# Altium footprint library SparkFun-IC-Microcontroller.PCBLIB: 42 footprints (part 1 of 3)
Each footprint in its own frame and in the unit in brackets; x right, y up, seen from the top. Pads: shape width x height; smd on the part's side, far side on the other; paste and mask are expansions set on the pad; w line width, h text height; cw(c..) or ccw(c..) is an arc to the next point about the centre after c.
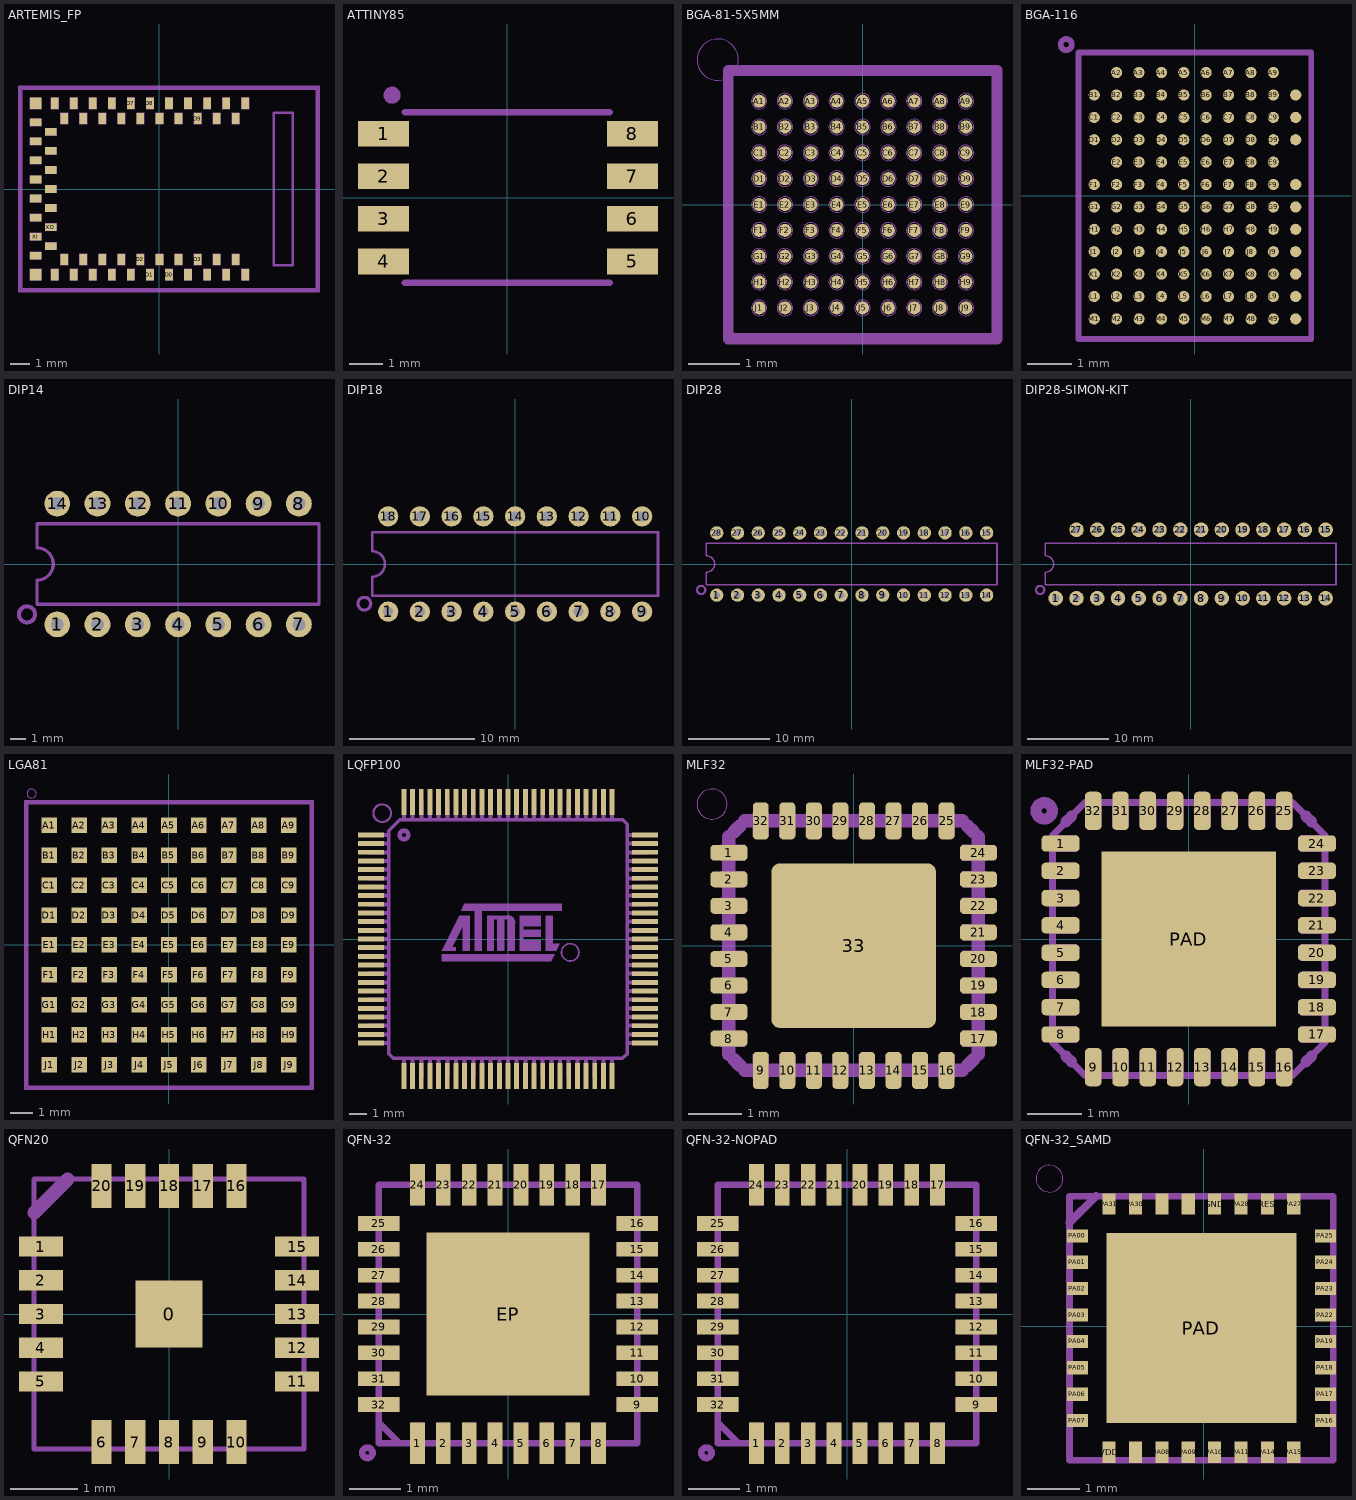
[diagram p0: the footprints below, top view; thin cyan lines are the x and y axes]

## ARTEMIS_FP [mm]
pads (59):
  rect 0.4x0.6 smd: AD16(-4,-3.7) BOOT(1.5,4.5) D0(0.5,-4.5) D1(-0.5,-4.5) D2(-1,-3.7) D3(2,-3.7) D7(-1.5,4.5) D8(-0.5,4.5) D9(2,3.7) D10(1,3.7) D14(-5,3.7) D17(-3.5,-4.5) D36(2.5,-4.5) D38(3,-3.7) D40(2.5,4.5) D41(-2.5,-4.5) GND@1(4.5,4.5) GND@39(-5.5,-4.5) GND@47(-1.5,-4.5) GND@59(4.5,-4.5) RXI-0(3.5,4.5) SWDCK(4,3.7) SWDIO(0,3.7) TXO-0(0.5,4.5) ~AD31(-3,-3.7) ~AD35(-2,3.7) ~D4(-2.5,4.5) ~D5(-1,3.7) ~D18(-4.5,-4.5) ~D19(-5,-3.7) ~D22(-3.5,4.5) ~D23(-4,3.7) ~D24(-3,3.7) ~D27(-4.5,4.5) ~D28(-5.5,4.5) ~D37(3.5,-4.5) ~D39(3,3.7) ~D42(1.5,-4.5) ~D43(1,-3.7) ~D44(4,-3.7) ~D45(-2,-3.7) ~RST(0,-3.7)
  rect 0.6x0.4 smd: AD34(-6.5,-0.5) D15(-6.5,0.5) VDD@36(-5.7,-3) VDD@37(-6.5,-3.5) XI(-6.5,-2.5) XO(-5.7,-2) ~AD11(-5.7,-1) ~AD12(-5.7,2) ~AD13(-5.7,1) ~AD29(-6.5,-1.5) ~AD32(-5.7,3) ~AD33/SWO(-5.7,0) ~D6(-6.5,3.5) ~D25(-6.5,2.5) ~D26(-6.5,1.5)
  rect 0.6x0.6 smd: GND@22(-6.5,4.5) GND@38(-6.5,-4.5)
tDocu:
  drawing of 67 lines, arcs and shapes, not listed
tPlace:
  lines w0.127: -7.375,-5.375 8.375,-5.375 8.375,5.375 -7.375,5.375 -7.375,-5.375
Reference:
  text "1" at 4.5,4.5 h0.17
  text "3" at 3.5,4.5 h0.17
  text "2" at 4,3.7 h0.17
  text "5" at 2.5,4.5 h0.17
  text "6" at 2,3.7 h0.17
  text "7" at 1.5,4.5 h0.17
  text "8" at 1,3.7 h0.17
  text "9" at 0.5,4.5 h0.17
  text "10" at 0,3.7 h0.17
  text "11" at -0.5,4.5 h0.17
  text "12" at -1,3.7 h0.17
  text "13" at -1.5,4.5 h0.17
  text "14" at -2,3.7 h0.17
  text "15" at -2.5,4.5 h0.17
  text "16" at -3,3.7 h0.17
  text "17" at -3.5,4.5 h0.17
  text "22" at -6.5,4.5 h0.17
  text "19" at -4.5,4.5 h0.17
  text "20" at -5,3.7 h0.17
  text "23" at -6.5,3.5 h0.17
  text "24" at -5.7,3 h0.17
  text "25" at -6.5,2.5 h0.17
  text "26" at -5.7,2 h0.17
  text "27" at -6.5,1.5 h0.17
  text "28" at -5.7,1 h0.17
  text "29" at -6.5,0.5 h0.17
  text "30" at -5.7,0 h0.17
  text "31" at -6.5,-0.5 h0.17
  text "32" at -5.7,-1 h0.17
  text "33" at -6.5,-1.5 h0.17
  text "34" at -5.7,-2 h0.17
  text "35" at -6.5,-2.5 h0.17
  text "36" at -5.7,-3 h0.17
  text "37" at -6.5,-3.5 h0.17
  text "39" at -5.5,-4.5 h0.17
  text "41" at -4.5,-4.5 h0.17
  text "45" at -2.5,-4.5 h0.17
  text "49" at -0.5,-4.5 h0.17
  text "53" at 1.5,-4.5 h0.17
  text "55" at 2.5,-4.5 h0.17
  text "56" at 3,-3.7 h0.17
  text "57" at 3.5,-4.5 h0.17
  text "58" at 4,-3.7 h0.17
  text "59" at 4.5,-4.5 h0.17
  text "4" at 3,3.7 h0.17
  text "18" at -4,3.7 h0.17
  text "21" at -5.5,4.5 h0.17
  text "54" at 2,-3.7 h0.17
  text "52" at 1,-3.7 h0.17
  text "50" at 0,-3.7 h0.17
  text "48" at -1,-3.7 h0.17
  text "46" at -2,-3.7 h0.17
  text "44" at -3,-3.7 h0.17
  text "42" at -4,-3.7 h0.17
  text "40" at -5,-3.7 h0.17
  text "43" at -3.5,-4.5 h0.17
  text "47" at -1.5,-4.5 h0.17
  text "51" at 0.5,-4.5 h0.17
  text "38" at -6.5,-4.5 h0.17

## ATTINY85 [mil]
pads (8):
  rect 60x30 smd: 1(-145,75) 2(-145,25) 3(-145,-25) 4(-145,-75) 5(146.73,-75) 6(146.73,-25) 7(146.73,25) 8(146.73,75)
tPlace:
  circle w10: c-135,120 r5
  lines w8: -120,-100 120,-100 ; -120,100 120,100

## BGA-81-5X5MM [mil]
pads (81):
  rrect100% 10x10 smd: A1(-78.74,78.74) A2(-59.06,78.74) A3(-39.37,78.74) A4(-19.69,78.74) A5(0,78.74) A6(19.69,78.74) A7(39.37,78.74) A8(59.06,78.74) A9(78.74,78.74) B1(-78.74,59.06) B2(-59.06,59.06) B3(-39.37,59.06) B4(-19.69,59.06) B5(0,59.06) B6(19.69,59.06) B7(39.37,59.06) B8(59.06,59.06) B9(78.74,59.06) C1(-78.74,39.37) C2(-59.06,39.37) C3(-39.37,39.37) C4(-19.69,39.37) C5(0,39.37) C6(19.69,39.37) C7(39.37,39.37) C8(59.06,39.37) C9(78.74,39.37) D1(-78.74,19.69) D2(-59.06,19.69) D3(-39.37,19.69) D4(-19.69,19.69) D5(0,19.69) D6(19.69,19.69) D7(39.37,19.69) D8(59.06,19.69) D9(78.74,19.69) E1(-78.74,0) E2(-59.06,0) E3(-39.37,0) E4(-19.69,0) E5(0,0) E6(19.69,0) E7(39.37,0) E8(59.06,0) E9(78.74,0) F1(-78.74,-19.69) F2(-59.06,-19.69) F3(-39.37,-19.69) F4(-19.69,-19.69) F5(0,-19.69) F6(19.69,-19.69) F7(39.37,-19.69) F8(59.06,-19.69) F9(78.74,-19.69) G1(-78.74,-39.37) G2(-59.06,-39.37) G3(-39.37,-39.37) G4(-19.69,-39.37) G5(0,-39.37) G6(19.69,-39.37) G7(39.37,-39.37) G8(59.06,-39.37) G9(78.74,-39.37) H1(-78.74,-59.06) H2(-59.06,-59.06) H3(-39.37,-59.06) H4(-19.69,-59.06) H5(0,-59.06) H6(19.69,-59.06) H7(39.37,-59.06) H8(59.06,-59.06) H9(78.74,-59.06) J1(-78.74,-78.74) J2(-59.06,-78.74) J3(-39.37,-78.74) J4(-19.69,-78.74) J5(0,-78.74) J6(19.69,-78.74) J7(39.37,-78.74) J8(59.06,-78.74) J9(78.74,-78.74)
tDocu:
  circle w0: c0,0 r5.91
  circle w0: c19.69,0 r5.91
  circle w0: c39.37,0 r5.91
  circle w0: c59.06,0 r5.91
  circle w0: c78.74,0 r5.91
  circle w0: c-19.69,0 r5.91
  circle w0: c-39.37,0 r5.91
  circle w0: c-59.06,0 r5.91
  circle w0: c-78.74,0 r5.91
  circle w0: c0,19.69 r5.91
  circle w0: c19.69,19.69 r5.91
  circle w0: c39.37,19.69 r5.91
  circle w0: c59.06,19.69 r5.91
  circle w0: c78.74,19.69 r5.91
  circle w0: c-19.69,19.69 r5.91
  circle w0: c-39.37,19.69 r5.91
  circle w0: c-59.06,19.69 r5.91
  circle w0: c-78.74,19.69 r5.91
  circle w0: c0,39.37 r5.91
  circle w0: c19.69,39.37 r5.91
  circle w0: c39.37,39.37 r5.91
  circle w0: c59.06,39.37 r5.91
  circle w0: c78.74,39.37 r5.91
  circle w0: c-19.69,39.37 r5.91
  circle w0: c-39.37,39.37 r5.91
  circle w0: c-59.06,39.37 r5.91
  circle w0: c-78.74,39.37 r5.91
  circle w0: c0,59.06 r5.91
  circle w0: c19.69,59.06 r5.91
  circle w0: c39.37,59.06 r5.91
  circle w0: c59.06,59.06 r5.91
  circle w0: c78.74,59.06 r5.91
  circle w0: c-19.69,59.06 r5.91
  circle w0: c-39.37,59.06 r5.91
  circle w0: c-59.06,59.06 r5.91
  circle w0: c-78.74,59.06 r5.91
  circle w0: c0,78.74 r5.91
  circle w0: c19.69,78.74 r5.91
  circle w0: c39.37,78.74 r5.91
  circle w0: c59.06,78.74 r5.91
  circle w0: c78.74,78.74 r5.91
  circle w0: c-19.69,78.74 r5.91
  circle w0: c-39.37,78.74 r5.91
  circle w0: c-59.06,78.74 r5.91
  circle w0: c-78.74,78.74 r5.91
  circle w0: c0,-19.69 r5.91
  circle w0: c19.69,-19.69 r5.91
  circle w0: c39.37,-19.69 r5.91
  circle w0: c59.06,-19.69 r5.91
  circle w0: c78.74,-19.69 r5.91
  circle w0: c-19.69,-19.69 r5.91
  circle w0: c-39.37,-19.69 r5.91
  circle w0: c-59.06,-19.69 r5.91
  circle w0: c-78.74,-19.69 r5.91
  circle w0: c0,-39.37 r5.91
  circle w0: c19.69,-39.37 r5.91
  circle w0: c39.37,-39.37 r5.91
  circle w0: c59.06,-39.37 r5.91
  circle w0: c78.74,-39.37 r5.91
  circle w0: c-19.69,-39.37 r5.91
  circle w0: c-39.37,-39.37 r5.91
  circle w0: c-59.06,-39.37 r5.91
  circle w0: c-78.74,-39.37 r5.91
  circle w0: c0,-59.06 r5.91
  circle w0: c19.69,-59.06 r5.91
  circle w0: c39.37,-59.06 r5.91
  circle w0: c59.06,-59.06 r5.91
  circle w0: c78.74,-59.06 r5.91
  circle w0: c-19.69,-59.06 r5.91
  circle w0: c-39.37,-59.06 r5.91
  circle w0: c-59.06,-59.06 r5.91
  circle w0: c-78.74,-59.06 r5.91
  circle w0: c0,-78.74 r5.91
  circle w0: c19.69,-78.74 r5.91
  circle w0: c39.37,-78.74 r5.91
  circle w0: c59.06,-78.74 r5.91
  circle w0: c78.74,-78.74 r5.91
  circle w0: c-19.69,-78.74 r5.91
  circle w0: c-39.37,-78.74 r5.91
  circle w0: c-59.06,-78.74 r5.91
  circle w0: c-78.74,-78.74 r5.91
  lines w0.1: -98.43,-98.43 -98.43,98.43 98.43,98.43 98.43,-98.43 -98.43,-98.43
tPlace:
  circle w0: c-110.3,110.3 r15.75
  lines w8: -102.43,-102.43 -102.43,102.43 102.43,102.43 102.43,-102.43 -102.43,-102.43

## BGA-116 [mm]
pads (116):
  rrect100% 0.25x0.25 smd: A2(-1.75,2.75) A3(-1.25,2.75) A4(-0.75,2.75) A5(-0.25,2.75) A6(0.25,2.75) A7(0.75,2.75) A8(1.25,2.75) A9(1.75,2.75) B1(-2.25,2.25) B2(-1.75,2.25) B3(-1.25,2.25) B4(-0.75,2.25) B5(-0.25,2.25) B6(0.25,2.25) B7(0.75,2.25) B8(1.25,2.25) B9(1.75,2.25) B10(2.25,2.25) C1(-2.25,1.75) C2(-1.75,1.75) C3(-1.25,1.75) C4(-0.75,1.75) C5(-0.25,1.75) C6(0.25,1.75) C7(0.75,1.75) C8(1.25,1.75) C9(1.75,1.75) C10(2.25,1.75) D1(-2.25,1.25) D2(-1.75,1.25) D3(-1.25,1.25) D4(-0.75,1.25) D5(-0.25,1.25) D6(0.25,1.25) D7(0.75,1.25) D8(1.25,1.25) D9(1.75,1.25) D10(2.25,1.25) E2(-1.75,0.75) E3(-1.25,0.75) E4(-0.75,0.75) E5(-0.25,0.75) E6(0.25,0.75) E7(0.75,0.75) E8(1.25,0.75) E9(1.75,0.75) F1(-2.25,0.25) F2(-1.75,0.25) F3(-1.25,0.25) F4(-0.75,0.25) F5(-0.25,0.25) F6(0.25,0.25) F7(0.75,0.25) F8(1.25,0.25) F9(1.75,0.25) F10(2.25,0.25) G1(-2.25,-0.25) G2(-1.75,-0.25) G3(-1.25,-0.25) G4(-0.75,-0.25) G5(-0.25,-0.25) G6(0.25,-0.25) G7(0.75,-0.25) G8(1.25,-0.25) G9(1.75,-0.25) G10(2.25,-0.25) H1(-2.25,-0.75) H2(-1.75,-0.75) H3(-1.25,-0.75) H4(-0.75,-0.75) H5(-0.25,-0.75) H6(0.25,-0.75) H7(0.75,-0.75) H8(1.25,-0.75) H9(1.75,-0.75) H10(2.25,-0.75) J1(-2.25,-1.25) J2(-1.75,-1.25) J3(-1.25,-1.25) J4(-0.75,-1.25) J5(-0.25,-1.25) J6(0.25,-1.25) J7(0.75,-1.25) J8(1.25,-1.25) J9(1.75,-1.25) J10(2.25,-1.25) K1(-2.25,-1.75) K2(-1.75,-1.75) K3(-1.25,-1.75) K4(-0.75,-1.75) K5(-0.25,-1.75) K6(0.25,-1.75) K7(0.75,-1.75) K8(1.25,-1.75) K9(1.75,-1.75) K10(2.25,-1.75) L1(-2.25,-2.25) L2(-1.75,-2.25) L3(-1.25,-2.25) L4(-0.75,-2.25) L5(-0.25,-2.25) L6(0.25,-2.25) L7(0.75,-2.25) L8(1.25,-2.25) L9(1.75,-2.25) L10(2.25,-2.25) M1(-2.25,-2.75) M2(-1.75,-2.75) M3(-1.25,-2.75) M4(-0.75,-2.75) M5(-0.25,-2.75) M6(0.25,-2.75) M7(0.75,-2.75) M8(1.25,-2.75) M9(1.75,-2.75) M10(2.25,-2.75)
tPlace:
  circle w0.127: c-2.875,3.375 r0.125
  lines w0.127: -2.6,-3.2 2.6,-3.2 2.6,3.2 -2.6,3.2 -2.6,-3.2

## DIP14 [mil]
pads (14):
  round 64 hole 32: 1(-300,-150) 2(-200,-150) 3(-100,-150) 4(0,-150) 5(100,-150) 6(200,-150) 7(300,-150) 8(300,150) 9(200,150) 10(100,150) 11(0,150) 12(-100,150) 13(-200,150) 14(-300,150)
tPlace:
  circle w10: c-375,-125 r20
  lines w8: -350,-100 350,-100 350,100 -350,100 -350,40 cw(c-350,0) -350,-40 -350,-100

## DIP18 [mil]
pads (18):
  round 64 hole 32: 1(-400,-150) 2(-300,-150) 3(-200,-150) 4(-100,-150) 5(0,-150) 6(100,-150) 7(200,-150) 8(300,-150) 9(400,-150) 10(400,150) 11(300,150) 12(200,150) 13(100,150) 14(0,150) 15(-100,150) 16(-200,150) 17(-300,150) 18(-400,150)
tPlace:
  circle w10: c-475,-125 r20
  lines w8: -450,-100 450,-100 450,100 -450,100 -450,40 cw(c-450,0) -450,-40 -450,-100

## DIP28 [mil]
pads (28):
  round 64 hole 32: 1(-650,-150) 2(-550,-150) 3(-450,-150) 4(-350,-150) 5(-250,-150) 6(-150,-150) 7(-50,-150) 8(50,-150) 9(150,-150) 10(250,-150) 11(350,-150) 12(450,-150) 13(550,-150) 14(650,-150) 15(650,150) 16(550,150) 17(450,150) 18(350,150) 19(250,150) 20(150,150) 21(50,150) 22(-50,150) 23(-150,150) 24(-250,150) 25(-350,150) 26(-450,150) 27(-550,150) 28(-650,150)
tPlace:
  circle w10: c-725,-125 r20
  lines w8: -700,-100 700,-100 700,100 -700,100 -700,40 cw(c-700,0) -700,-40 -700,-100

## DIP28-SIMON-KIT [mil]
pads (27):
  round 70 hole 34: 1(-650,-165) 2(-550,-165) 3(-450,-165) 4(-350,-165) 5(-250,-165) 6(-150,-165) 7(-50,-165) 8(50,-165) 9(150,-165) 10(250,-165) 11(350,-165) 12(450,-165) 13(550,-165) 14(650,-165) 15(650,165) 16(550,165) 17(450,165) 18(350,165) 19(250,165) 20(150,165) 21(50,165) 22(-50,165) 23(-150,165) 24(-250,165) 25(-350,165) 26(-450,165) 27(-550,165)
Top Solder:
  circle w0: c-550,165 r17
  circle w0: c-450,165 r17
  circle w0: c-350,165 r17
  circle w0: c-650,-165 r17
  circle w0: c-550,-165 r17
  circle w0: c-450,-165 r17
  circle w0: c-350,-165 r17
  circle w0: c-250,165 r17
  circle w0: c-150,165 r17
  circle w0: c-50,165 r17
  circle w0: c50,165 r17
  circle w0: c-250,-165 r17
  circle w0: c-150,-165 r17
  circle w0: c-50,-165 r17
  circle w0: c50,-165 r17
  circle w0: c150,165 r17
  circle w0: c250,165 r17
  circle w0: c350,165 r17
  circle w0: c450,165 r17
  circle w0: c150,-165 r17
  circle w0: c250,-165 r17
  circle w0: c350,-165 r17
  circle w0: c450,-165 r17
  circle w0: c550,165 r17
  circle w0: c650,165 r17
  circle w0: c550,-165 r17
  circle w0: c650,-165 r17
Bottom Solder:
  circle w0: c-550,165 r42
  circle w0: c-450,165 r42
  circle w0: c-350,165 r42
  circle w0: c-650,-165 r42
  circle w0: c-550,-165 r42
  circle w0: c-450,-165 r42
  circle w0: c-350,-165 r42
  circle w0: c-250,165 r42
  circle w0: c-150,165 r42
  circle w0: c-50,165 r42
  circle w0: c50,165 r42
  circle w0: c-250,-165 r42
  circle w0: c-150,-165 r42
  circle w0: c-50,-165 r42
  circle w0: c50,-165 r42
  circle w0: c150,165 r42
  circle w0: c250,165 r42
  circle w0: c350,165 r42
  circle w0: c450,165 r42
  circle w0: c150,-165 r42
  circle w0: c250,-165 r42
  circle w0: c350,-165 r42
  circle w0: c450,-165 r42
  circle w0: c550,165 r42
  circle w0: c650,165 r42
  circle w0: c550,-165 r42
  circle w0: c650,-165 r42
tPlace:
  circle w10: c-725,-125 r20
  lines w8: -700,-100 700,-100 700,100 -700,100 -700,40 cw(c-700,0) -700,-40 -700,-100

## LGA81 [mm]
pads (81):
  rect 0.7x0.7 smd paste+0 mask+0: A1(-5.4,5.4) A2(-4.05,5.4) A3(-2.7,5.4) A4(-1.35,5.4) A5(0,5.4) A6(1.35,5.4) A7(2.7,5.4) A8(4.05,5.4) A9(5.4,5.4) B1(-5.4,4.05) B2(-4.05,4.05) B3(-2.7,4.05) B4(-1.35,4.05) B5(0,4.05) B6(1.35,4.05) B7(2.7,4.05) B8(4.05,4.05) B9(5.4,4.05) C1(-5.4,2.7) C2(-4.05,2.7) C3(-2.7,2.7) C4(-1.35,2.7) C5(0,2.7) C6(1.35,2.7) C7(2.7,2.7) C8(4.05,2.7) C9(5.4,2.7) D1(-5.4,1.35) D2(-4.05,1.35) D3(-2.7,1.35) D4(-1.35,1.35) D5(0,1.35) D6(1.35,1.35) D7(2.7,1.35) D8(4.05,1.35) D9(5.4,1.35) E1(-5.4,0) E2(-4.05,0) E3(-2.7,0) E4(-1.35,0) E5(0,0) E6(1.35,0) E7(2.7,0) E8(4.05,0) E9(5.4,0) F1(-5.4,-1.35) F2(-4.05,-1.35) F3(-2.7,-1.35) F4(-1.35,-1.35) F5(0,-1.35) F6(1.35,-1.35) F7(2.7,-1.35) F8(4.05,-1.35) F9(5.4,-1.35) G1(-5.4,-2.7) G2(-4.05,-2.7) G3(-2.7,-2.7) G4(-1.35,-2.7) G5(0,-2.7) G6(1.35,-2.7) G7(2.7,-2.7) G8(4.05,-2.7) G9(5.4,-2.7) H1(-5.4,-4.05) H2(-4.05,-4.05) H3(-2.7,-4.05) H4(-1.35,-4.05) H5(0,-4.05) H6(1.35,-4.05) H7(2.7,-4.05) H8(4.05,-4.05) H9(5.4,-4.05) J1(-5.4,-5.4) J2(-4.05,-5.4) J3(-2.7,-5.4) J4(-1.35,-5.4) J5(0,-5.4) J6(1.35,-5.4) J7(2.7,-5.4) J8(4.05,-5.4) J9(5.4,-5.4)
Top Paste:
  circle w0: c-4.05,5.4 r0.3
  circle w0: c-5.4,5.4 r0.3
  circle w0: c-2.7,5.4 r0.3
  circle w0: c-1.35,5.4 r0.3
  circle w0: c0,5.4 r0.3
  circle w0: c1.35,5.4 r0.3
  circle w0: c2.7,5.4 r0.3
  circle w0: c4.05,5.4 r0.3
  circle w0: c5.4,5.4 r0.3
  circle w0: c-4.05,4.05 r0.3
  circle w0: c-5.4,4.05 r0.3
  circle w0: c-2.7,4.05 r0.3
  circle w0: c-1.35,4.05 r0.3
  circle w0: c0,4.05 r0.3
  circle w0: c1.35,4.05 r0.3
  circle w0: c2.7,4.05 r0.3
  circle w0: c4.05,4.05 r0.3
  circle w0: c5.4,4.05 r0.3
  circle w0: c-4.05,2.7 r0.3
  circle w0: c-5.4,2.7 r0.3
  circle w0: c-2.7,2.7 r0.3
  circle w0: c-1.35,2.7 r0.3
  circle w0: c0,2.7 r0.3
  circle w0: c1.35,2.7 r0.3
  circle w0: c2.7,2.7 r0.3
  circle w0: c4.05,2.7 r0.3
  circle w0: c5.4,2.7 r0.3
  circle w0: c-4.05,1.35 r0.3
  circle w0: c-5.4,1.35 r0.3
  circle w0: c-2.7,1.35 r0.3
  circle w0: c-1.35,1.35 r0.3
  circle w0: c0,1.35 r0.3
  circle w0: c1.35,1.35 r0.3
  circle w0: c2.7,1.35 r0.3
  circle w0: c4.05,1.35 r0.3
  circle w0: c5.4,1.35 r0.3
  circle w0: c-5.4,0 r0.3
  circle w0: c-4.05,0 r0.3
  circle w0: c-5.4,0 r0.3
  circle w0: c-2.7,0 r0.3
  circle w0: c-1.35,0 r0.3
  circle w0: c0,0 r0.3
  circle w0: c1.35,0 r0.3
  circle w0: c2.7,0 r0.3
  circle w0: c4.05,0 r0.3
  circle w0: c5.4,0 r0.3
  circle w0: c-4.05,-1.35 r0.3
  circle w0: c-5.4,-1.35 r0.3
  circle w0: c-2.7,-1.35 r0.3
  circle w0: c-1.35,-1.35 r0.3
  circle w0: c0,-1.35 r0.3
  circle w0: c1.35,-1.35 r0.3
  circle w0: c2.7,-1.35 r0.3
  circle w0: c4.05,-1.35 r0.3
  circle w0: c5.4,-1.35 r0.3
  circle w0: c-4.05,-2.7 r0.3
  circle w0: c-5.4,-2.7 r0.3
  circle w0: c-2.7,-2.7 r0.3
  circle w0: c-1.35,-2.7 r0.3
  circle w0: c0,-2.7 r0.3
  circle w0: c1.35,-2.7 r0.3
  circle w0: c2.7,-2.7 r0.3
  circle w0: c4.05,-2.7 r0.3
  circle w0: c5.4,-2.7 r0.3
  circle w0: c-4.05,-4.05 r0.3
  circle w0: c-5.4,-4.05 r0.3
  circle w0: c-2.7,-4.05 r0.3
  circle w0: c-1.35,-4.05 r0.3
  circle w0: c0,-4.05 r0.3
  circle w0: c1.35,-4.05 r0.3
  circle w0: c2.7,-4.05 r0.3
  circle w0: c4.05,-4.05 r0.3
  circle w0: c5.4,-4.05 r0.3
  circle w0: c-4.05,-5.4 r0.3
  circle w0: c-5.4,-5.4 r0.3
  circle w0: c-2.7,-5.4 r0.3
  circle w0: c-1.35,-5.4 r0.3
  circle w0: c0,-5.4 r0.3
  circle w0: c1.35,-5.4 r0.3
  circle w0: c2.7,-5.4 r0.3
  circle w0: c4.05,-5.4 r0.3
  circle w0: c5.4,-5.4 r0.3
Top Solder:
  drawing of 81 lines, arcs and shapes, not listed
tDocu:
  lines w0.127: -6.4,-6.4 6.4,-6.4 6.4,6.4 -6.4,6.4 -6.4,-6.4
tPlace:
  circle w0: c-6.2,6.835 r0.203
  lines w0.102: -6.5,-6.5 -6.5,6.5 6.5,6.5 6.5,-6.5 -6.5,-6.5

## LQFP100 [mm]
pads (100):
  rect 1.5x0.28 smd: 1(-7.9,6) 2(-7.9,5.5) 3(-7.9,5) 4(-7.9,4.5) 5(-7.9,4) 6(-7.9,3.5) 7(-7.9,3) 8(-7.9,2.5) 9(-7.9,2) 10(-7.9,1.5) 11(-7.9,1) 12(-7.9,0.5) 13(-7.9,0) 14(-7.9,-0.5) 15(-7.9,-1) 16(-7.9,-1.5) 17(-7.9,-2) 18(-7.9,-2.5) 19(-7.9,-3) 20(-7.9,-3.5) 21(-7.9,-4) 22(-7.9,-4.5) 23(-7.9,-5) 24(-7.9,-5.5) 25(-7.9,-6) 51(7.9,-6) 52(7.9,-5.5) 53(7.9,-5) 54(7.9,-4.5) 55(7.9,-4) 56(7.9,-3.5) 57(7.9,-3) 58(7.9,-2.5) 59(7.9,-2) 60(7.9,-1.5) 61(7.9,-1) 62(7.9,-0.5) 63(7.9,0) 64(7.9,0.5) 65(7.9,1) 66(7.9,1.5) 67(7.9,2) 68(7.9,2.5) 69(7.9,3) 70(7.9,3.5) 71(7.9,4) 72(7.9,4.5) 73(7.9,5) 74(7.9,5.5) 75(7.9,6)
  rect 0.28x1.5 smd: 26(-6,-7.9) 27(-5.5,-7.9) 28(-5,-7.9) 29(-4.5,-7.9) 30(-4,-7.9) 31(-3.5,-7.9) 32(-3,-7.9) 33(-2.5,-7.9) 34(-2,-7.9) 35(-1.5,-7.9) 36(-1,-7.9) 37(-0.5,-7.9) 38(0,-7.9) 39(0.5,-7.9) 40(1,-7.9) 41(1.5,-7.9) 42(2,-7.9) 43(2.5,-7.9) 44(3,-7.9) 45(3.5,-7.9) 46(4,-7.9) 47(4.5,-7.9) 48(5,-7.9) 49(5.5,-7.9) 50(6,-7.9) 76(6,7.9) 77(5.5,7.9) 78(5,7.9) 79(4.5,7.9) 80(4,7.9) 81(3.5,7.9) 82(3,7.9) 83(2.5,7.9) 84(2,7.9) 85(1.5,7.9) 86(1,7.9) 87(0.5,7.9) 88(0,7.9) 89(-0.5,7.9) 90(-1,7.9) 91(-1.5,7.9) 92(-2,7.9) 93(-2.5,7.9) 94(-3,7.9) 95(-3.5,7.9) 96(-4,7.9) 97(-4.5,7.9) 98(-5,7.9) 99(-5.5,7.9) 100(-6,7.9)
tDocu:
  drawing of 108 lines, arcs and shapes, not listed
  text "R" at 3.39,-1.07 h0.94
tPlace:
  circle w0.254: c-6,6 r0.25
  circle w0.127: c-7.254,7.254 r0.508
  lines w0.203: -6.875,-6.625 -6.625,-6.875 6.6,-6.875 6.875,-6.625 6.875,6.625 6.625,6.875 -6.25,6.875 -6.875,6.25 -6.875,-6.625

## MLF32 [mm]
pads (33):
  rrect50% 0.7x0.3 smd: 1(-2.35,1.75) 2(-2.35,1.25) 3(-2.35,0.75) 4(-2.35,0.25) 5(-2.35,-0.25) 6(-2.35,-0.75) 7(-2.35,-1.25) 8(-2.35,-1.75) 17(2.35,-1.75) 18(2.35,-1.25) 19(2.35,-0.75) 20(2.35,-0.25) 21(2.35,0.25) 22(2.35,0.75) 23(2.35,1.25) 24(2.35,1.75)
  rrect50% 0.3x0.7 smd: 9(-1.75,-2.35) 10(-1.25,-2.35) 11(-0.75,-2.35) 12(-0.25,-2.35) 13(0.25,-2.35) 14(0.75,-2.35) 15(1.25,-2.35) 16(1.75,-2.35) 25(1.75,2.35) 26(1.25,2.35) 27(0.75,2.35) 28(0.25,2.35) 29(-0.25,2.35) 30(-0.75,2.35) 31(-1.25,2.35) 32(-1.75,2.35)
  rrect10% 3.1x3.1 smd paste+0: 33(0,0)
Top Paste:
  region: -1.27,-1.27 -1.27,1.27 1.27,1.27 1.27,-1.27
tDocu:
  region: -2.5,1.6 -2.5,1.9 -2.05,1.9 -2.05,1.6
  region: -2.5,1.1 -2.5,1.4 -2.05,1.4 -2.05,1.1
  region: -2.5,0.6 -2.5,0.9 -2.05,0.9 -2.05,0.6
  region: -2.5,0.1 -2.5,0.4 -2.05,0.4 -2.05,0.1
  region: -2.5,-0.4 -2.5,-0.1 -2.05,-0.1 -2.05,-0.4
  region: -2.5,-0.9 -2.5,-0.6 -2.05,-0.6 -2.05,-0.9
  region: -2.5,-1.4 -2.5,-1.1 -2.05,-1.1 -2.05,-1.4
  region: -2.5,-1.9 -2.5,-1.6 -2.05,-1.6 -2.05,-1.9
  region: -1.9,-2.5 -1.9,-2.05 -1.6,-2.05 -1.6,-2.5
  region: -1.4,-2.5 -1.4,-2.05 -1.1,-2.05 -1.1,-2.5
  region: -0.9,-2.5 -0.9,-2.05 -0.6,-2.05 -0.6,-2.5
  region: -0.4,-2.5 -0.4,-2.05 -0.1,-2.05 -0.1,-2.5
  region: 0.1,-2.5 0.1,-2.05 0.4,-2.05 0.4,-2.5
  region: 0.6,-2.5 0.6,-2.05 0.9,-2.05 0.9,-2.5
  region: 1.1,-2.5 1.1,-2.05 1.4,-2.05 1.4,-2.5
  region: 1.6,-2.5 1.6,-2.05 1.9,-2.05 1.9,-2.5
  region: 2.05,-1.9 2.05,-1.6 2.5,-1.6 2.5,-1.9
  region: 2.05,-1.4 2.05,-1.1 2.5,-1.1 2.5,-1.4
  region: 2.05,-0.9 2.05,-0.6 2.5,-0.6 2.5,-0.9
  region: 2.05,-0.4 2.05,-0.1 2.5,-0.1 2.5,-0.4
  region: 2.05,0.1 2.05,0.4 2.5,0.4 2.5,0.1
  region: 2.05,0.6 2.05,0.9 2.5,0.9 2.5,0.6
  region: 2.05,1.1 2.05,1.4 2.5,1.4 2.5,1.1
  region: 2.05,1.6 2.05,1.9 2.5,1.9 2.5,1.6
  region: 1.6,2.05 1.6,2.5 1.9,2.5 1.9,2.05
  region: 1.1,2.05 1.1,2.5 1.4,2.5 1.4,2.05
  region: 0.6,2.05 0.6,2.5 0.9,2.5 0.9,2.05
  region: 0.1,2.05 0.1,2.5 0.4,2.5 0.4,2.05
  region: -0.4,2.05 -0.4,2.5 -0.1,2.5 -0.1,2.05
  region: -0.9,2.05 -0.9,2.5 -0.6,2.5 -0.6,2.05
  region: -1.4,2.05 -1.4,2.5 -1.1,2.5 -1.1,2.05
  region: -1.9,2.05 -1.9,2.5 -1.6,2.5 -1.6,2.05
  lines w0.254: -2.35,-2.05 -2.35,2.05 ; -2.05,-2.35 2.05,-2.35 ; -2.05,2.35 2.05,2.35 ; 2.35,-2.05 2.35,2.05
tPlace:
  circle w0: c-2.667,2.667 r0.284
  lines w0.254: -2.25,-2.15 -2.15,-2.25 ; -2.25,2.15 -2.15,2.25 ; 2.15,-2.25 2.25,-2.15 ; 2.15,2.25 2.25,2.15

## MLF32-PAD [mm]
pads (33):
  rrect50% 0.7x0.3 smd: 1(-2.35,1.75) 2(-2.35,1.25) 3(-2.35,0.75) 4(-2.35,0.25) 5(-2.35,-0.25) 6(-2.35,-0.75) 7(-2.35,-1.25) 8(-2.35,-1.75) 17(2.35,-1.75) 18(2.35,-1.25) 19(2.35,-0.75) 20(2.35,-0.25) 21(2.35,0.25) 22(2.35,0.75) 23(2.35,1.25) 24(2.35,1.75)
  rrect50% 0.3x0.7 smd: 9(-1.75,-2.35) 10(-1.25,-2.35) 11(-0.75,-2.35) 12(-0.25,-2.35) 13(0.25,-2.35) 14(0.75,-2.35) 15(1.25,-2.35) 16(1.75,-2.35) 25(1.75,2.35) 26(1.25,2.35) 27(0.75,2.35) 28(0.25,2.35) 29(-0.25,2.35) 30(-0.75,2.35) 31(-1.25,2.35) 32(-1.75,2.35)
  rect 3.2x3.2 smd paste+0: PAD(0,0)
Top Paste:
  region: -1.2,0.25 -1.2,1.2 -0.25,1.2 -0.25,0.25
  region: 0.25,0.25 0.25,1.2 1.2,1.2 1.2,0.25
  region: 0.25,-1.2 0.25,-0.25 1.2,-0.25 1.2,-1.2
  region: -1.2,-1.2 -1.2,-0.25 -0.25,-0.25 -0.25,-1.2
tDocu:
  region: -2.5,1.6 -2.5,1.9 -2.05,1.9 -2.05,1.6
  region: -2.5,1.1 -2.5,1.4 -2.05,1.4 -2.05,1.1
  region: -2.5,0.6 -2.5,0.9 -2.05,0.9 -2.05,0.6
  region: -2.5,0.1 -2.5,0.4 -2.05,0.4 -2.05,0.1
  region: -2.5,-0.4 -2.5,-0.1 -2.05,-0.1 -2.05,-0.4
  region: -2.5,-0.9 -2.5,-0.6 -2.05,-0.6 -2.05,-0.9
  region: -2.5,-1.4 -2.5,-1.1 -2.05,-1.1 -2.05,-1.4
  region: -2.5,-1.9 -2.5,-1.6 -2.05,-1.6 -2.05,-1.9
  region: -1.9,-2.5 -1.9,-2.05 -1.6,-2.05 -1.6,-2.5
  region: -1.4,-2.5 -1.4,-2.05 -1.1,-2.05 -1.1,-2.5
  region: -0.9,-2.5 -0.9,-2.05 -0.6,-2.05 -0.6,-2.5
  region: -0.4,-2.5 -0.4,-2.05 -0.1,-2.05 -0.1,-2.5
  region: 0.1,-2.5 0.1,-2.05 0.4,-2.05 0.4,-2.5
  region: 0.6,-2.5 0.6,-2.05 0.9,-2.05 0.9,-2.5
  region: 1.1,-2.5 1.1,-2.05 1.4,-2.05 1.4,-2.5
  region: 1.6,-2.5 1.6,-2.05 1.9,-2.05 1.9,-2.5
  region: 2.05,-1.9 2.05,-1.6 2.5,-1.6 2.5,-1.9
  region: 2.05,-1.4 2.05,-1.1 2.5,-1.1 2.5,-1.4
  region: 2.05,-0.9 2.05,-0.6 2.5,-0.6 2.5,-0.9
  region: 2.05,-0.4 2.05,-0.1 2.5,-0.1 2.5,-0.4
  region: 2.05,0.1 2.05,0.4 2.5,0.4 2.5,0.1
  region: 2.05,0.6 2.05,0.9 2.5,0.9 2.5,0.6
  region: 2.05,1.1 2.05,1.4 2.5,1.4 2.5,1.1
  region: 2.05,1.6 2.05,1.9 2.5,1.9 2.5,1.6
  region: 1.6,2.05 1.6,2.5 1.9,2.5 1.9,2.05
  region: 1.1,2.05 1.1,2.5 1.4,2.5 1.4,2.05
  region: 0.6,2.05 0.6,2.5 0.9,2.5 0.9,2.05
  region: 0.1,2.05 0.1,2.5 0.4,2.5 0.4,2.05
  region: -0.4,2.05 -0.4,2.5 -0.1,2.5 -0.1,2.05
  region: -0.9,2.05 -0.9,2.5 -0.6,2.5 -0.6,2.05
  region: -1.4,2.05 -1.4,2.5 -1.1,2.5 -1.1,2.05
  region: -1.9,2.05 -1.9,2.5 -1.6,2.5 -1.6,2.05
  lines w0.127: -2.5,-1.9 -1.9,-2.5 1.9,-2.5 2.5,-1.9 2.5,1.9 1.9,2.5 -1.9,2.5 -2.5,1.9 -2.5,-1.9
tPlace:
  circle w0.203: c-2.65,2.35 r0.15
  lines w0.203: -2.25,-2.15 -2.15,-2.25 ; -2.25,2.15 -2.15,2.25 ; 2.15,-2.25 2.25,-2.15 ; 2.15,2.25 2.25,2.15

## QFN20 [mm]
pads (21):
  rect 1x1 smd paste+0: 0(0,0)
  rect 0.65x0.3 smd paste+0: 1(-1.9,1) 2(-1.9,0.5) 3(-1.9,0) 4(-1.9,-0.5) 5(-1.9,-1) 11(1.9,-1) 12(1.9,-0.5) 13(1.9,0) 14(1.9,0.5) 15(1.9,1)
  rect 0.3x0.65 smd paste+0: 6(-1,-1.9) 7(-0.5,-1.9) 8(0,-1.9) 9(0.5,-1.9) 10(1,-1.9) 16(1,1.9) 17(0.5,1.9) 18(0,1.9) 19(-0.5,1.9) 20(-1,1.9)
Top Paste:
  region: -0.25,-0.25 -0.25,0.25 0.25,0.25 0.25,-0.25
  region: -2.095,0.902 -2.095,1.105 -1.613,1.105 -1.613,0.902
  region: -2.095,0.394 -2.095,0.597 -1.613,0.597 -1.613,0.394
  region: -2.095,-0.102 -2.095,0.102 -1.613,0.102 -1.613,-0.102
  region: -2.095,-0.597 -2.095,-0.394 -1.613,-0.394 -1.613,-0.597
  region: -2.095,-1.105 -2.095,-0.902 -1.613,-0.902 -1.613,-1.105
  region: 1.613,0.902 1.613,1.105 2.095,1.105 2.095,0.902
  region: 1.613,0.394 1.613,0.597 2.095,0.597 2.095,0.394
  region: 1.613,-0.102 1.613,0.102 2.095,0.102 2.095,-0.102
  region: 1.613,-0.597 1.613,-0.394 2.095,-0.394 2.095,-0.597
  region: 1.613,-1.105 1.613,-0.902 2.095,-0.902 2.095,-1.105
  region: -0.902,1.613 -1.105,1.613 -1.105,2.095 -0.902,2.095
  region: -0.394,1.613 -0.597,1.613 -0.597,2.095 -0.394,2.095
  region: 0.102,1.613 -0.102,1.613 -0.102,2.095 0.102,2.095
  region: 0.597,1.613 0.394,1.613 0.394,2.095 0.597,2.095
  region: 1.105,1.613 0.902,1.613 0.902,2.095 1.105,2.095
  region: -0.902,-2.095 -1.105,-2.095 -1.105,-1.613 -0.902,-1.613
  region: -0.394,-2.095 -0.597,-2.095 -0.597,-1.613 -0.394,-1.613
  region: 0.102,-2.095 -0.102,-2.095 -0.102,-1.613 0.102,-1.613
  region: 0.597,-2.095 0.394,-2.095 0.394,-1.613 0.597,-1.613
  region: 1.105,-2.095 0.902,-2.095 0.902,-1.613 1.105,-1.613
tDocu:
  lines w0.076: -2,-2 2,-2 2,2 -2,2 -2,-2
tPlace:
  lines w0.203: -2,1.5 -1.5,2

## QFN-32 [mil]
pads (33):
  rect 11.2x31.5 smd: 1(-68.9,-98.43) 2(-49.21,-98.43) 3(-29.53,-98.43) 4(-9.84,-98.43) 5(9.84,-98.43) 6(29.53,-98.43) 7(49.21,-98.43) 8(68.9,-98.43) 17(68.9,98.43) 18(49.21,98.43) 19(29.53,98.43) 20(9.84,98.43) 21(-9.84,98.43) 22(-29.53,98.43) 23(-49.21,98.43) 24(-68.9,98.43)
  rect 31.5x11.2 smd: 9(98.43,-68.9) 10(98.43,-49.21) 11(98.43,-29.53) 12(98.43,-9.84) 13(98.43,9.84) 14(98.43,29.53) 15(98.43,49.21) 16(98.43,68.9) 25(-98.43,68.9) 26(-98.43,49.21) 27(-98.43,29.53) 28(-98.43,9.84) 29(-98.43,-9.84) 30(-98.43,-29.53) 31(-98.43,-49.21) 32(-98.43,-68.9)
  rect 124.02x124.02 smd paste+0: EP(0,0)
Top Paste:
  region: -57.09,5.91 -57.09,57.09 -5.91,57.09 -5.91,5.91
  region: 5.91,57.09 57.09,57.09 57.09,5.91 5.91,5.91
  region: -5.91,-57.09 -57.09,-57.09 -57.09,-5.91 -5.91,-5.91
  region: 57.09,-5.91 57.09,-57.09 5.91,-57.09 5.91,-5.91
tDocu:
  region: -98.43,5.12 -98.43,14.57 -82.68,14.57 -82.68,5.12
  region: -98.43,-14.57 -98.43,-5.12 -82.68,-5.12 -82.68,-14.57
  region: -98.43,-34.25 -98.43,-24.8 -82.68,-24.8 -82.68,-34.25
  region: -98.43,-53.94 -98.43,-44.49 -82.68,-44.49 -82.68,-53.94
  region: -98.43,-73.62 -98.43,-64.17 -82.68,-64.17 -82.68,-73.62
  region: -98.43,24.8 -98.43,34.25 -82.68,34.25 -82.68,24.8
  region: -98.43,44.49 -98.43,53.94 -82.68,53.94 -82.68,44.49
  region: -98.43,64.17 -98.43,73.62 -82.68,73.62 -82.68,64.17
  region: 5.12,98.43 14.57,98.43 14.57,82.68 5.12,82.68
  region: -14.57,98.43 -5.12,98.43 -5.12,82.68 -14.57,82.68
  region: -34.25,98.43 -24.8,98.43 -24.8,82.68 -34.25,82.68
  region: -53.94,98.43 -44.49,98.43 -44.49,82.68 -53.94,82.68
  region: -73.62,98.43 -64.17,98.43 -64.17,82.68 -73.62,82.68
  region: 24.8,98.43 34.25,98.43 34.25,82.68 24.8,82.68
  region: 44.49,98.43 53.94,98.43 53.94,82.68 44.49,82.68
  region: 64.17,98.43 73.62,98.43 73.62,82.68 64.17,82.68
  region: -5.12,-98.43 -14.57,-98.43 -14.57,-82.68 -5.12,-82.68
  region: 14.57,-98.43 5.12,-98.43 5.12,-82.68 14.57,-82.68
  region: 34.25,-98.43 24.8,-98.43 24.8,-82.68 34.25,-82.68
  region: 53.94,-98.43 44.49,-98.43 44.49,-82.68 53.94,-82.68
  region: 73.62,-98.43 64.17,-98.43 64.17,-82.68 73.62,-82.68
  region: -24.8,-98.43 -34.25,-98.43 -34.25,-82.68 -24.8,-82.68
  region: -44.49,-98.43 -53.94,-98.43 -53.94,-82.68 -44.49,-82.68
  region: -64.17,-98.43 -73.62,-98.43 -73.62,-82.68 -64.17,-82.68
  region: 98.43,-5.12 98.43,-14.57 82.68,-14.57 82.68,-5.12
  region: 98.43,14.57 98.43,5.12 82.68,5.12 82.68,14.57
  region: 98.43,34.25 98.43,24.8 82.68,24.8 82.68,34.25
  region: 98.43,53.94 98.43,44.49 82.68,44.49 82.68,53.94
  region: 98.43,73.62 98.43,64.17 82.68,64.17 82.68,73.62
  region: 98.43,-24.8 98.43,-34.25 82.68,-34.25 82.68,-24.8
  region: 98.43,-44.49 98.43,-53.94 82.68,-53.94 82.68,-44.49
  region: 98.43,-64.17 98.43,-73.62 82.68,-73.62 82.68,-64.17
  lines w5: -98.43,-98.43 98.43,-98.43 98.43,98.43 -98.43,98.43 -98.43,-98.43
tPlace:
  circle w5: c-107,-105.66 r3.94
  lines w5: -98.43,-82.68 -82.68,-98.43 ; -98.43,82.68 -98.43,98.43 -82.68,98.43 ; 82.68,-98.43 98.43,-98.43 98.43,-82.68 ; 82.68,98.43 98.43,98.43 98.43,82.68

## QFN-32-NOPAD [mil]
pads (32):
  rect 11.2x31.5 smd paste+0: 1(-68.9,-98.43) 2(-49.21,-98.43) 3(-29.53,-98.43) 4(-9.84,-98.43) 5(9.84,-98.43) 6(29.53,-98.43) 7(49.21,-98.43) 8(68.9,-98.43) 17(68.9,98.43) 18(49.21,98.43) 19(29.53,98.43) 20(9.84,98.43) 21(-9.84,98.43) 22(-29.53,98.43) 23(-49.21,98.43) 24(-68.9,98.43)
  rect 31.5x11.2 smd paste+0: 9(98.43,-68.9) 10(98.43,-49.21) 11(98.43,-29.53) 12(98.43,-9.84) 13(98.43,9.84) 14(98.43,29.53) 15(98.43,49.21) 16(98.43,68.9) 25(-98.43,68.9) 26(-98.43,49.21) 27(-98.43,29.53) 28(-98.43,9.84) 29(-98.43,-9.84) 30(-98.43,-29.53) 31(-98.43,-49.21) 32(-98.43,-68.9)
Top Paste:
  region: -74.8,90.55 -74.8,114.17 -62.99,114.17 -62.99,90.55
  region: -55.12,90.55 -55.12,114.17 -43.31,114.17 -43.31,90.55
  region: -35.43,90.55 -35.43,114.17 -23.62,114.17 -23.62,90.55
  region: -15.75,90.55 -15.75,114.17 -3.94,114.17 -3.94,90.55
  region: 3.94,90.55 3.94,114.17 15.75,114.17 15.75,90.55
  region: 23.62,90.55 23.62,114.17 35.43,114.17 35.43,90.55
  region: 43.31,90.55 43.31,114.17 55.12,114.17 55.12,90.55
  region: 62.99,90.55 62.99,114.17 74.8,114.17 74.8,90.55
  region: 90.55,62.99 90.55,74.8 114.17,74.8 114.17,62.99
  region: 90.55,43.31 90.55,55.12 114.17,55.12 114.17,43.31
  region: 90.55,23.62 90.55,35.43 114.17,35.43 114.17,23.62
  region: 90.55,3.94 90.55,15.75 114.17,15.75 114.17,3.94
  region: 90.55,-15.75 90.55,-3.94 114.17,-3.94 114.17,-15.75
  region: 90.55,-35.43 90.55,-23.62 114.17,-23.62 114.17,-35.43
  region: 90.55,-55.12 90.55,-43.31 114.17,-43.31 114.17,-55.12
  region: 90.55,-74.8 90.55,-62.99 114.17,-62.99 114.17,-74.8
  region: 62.99,-114.17 62.99,-90.55 74.8,-90.55 74.8,-114.17
  region: 43.31,-114.17 43.31,-90.55 55.12,-90.55 55.12,-114.17
  region: 23.62,-114.17 23.62,-90.55 35.43,-90.55 35.43,-114.17
  region: 3.94,-114.17 3.94,-90.55 15.75,-90.55 15.75,-114.17
  region: -15.75,-114.17 -15.75,-90.55 -3.94,-90.55 -3.94,-114.17
  region: -35.43,-114.17 -35.43,-90.55 -23.62,-90.55 -23.62,-114.17
  region: -55.12,-114.17 -55.12,-90.55 -43.31,-90.55 -43.31,-114.17
  region: -74.8,-114.17 -74.8,-90.55 -62.99,-90.55 -62.99,-114.17
  region: -114.17,-74.8 -114.17,-62.99 -90.55,-62.99 -90.55,-74.8
  region: -114.17,-55.12 -114.17,-43.31 -90.55,-43.31 -90.55,-55.12
  region: -114.17,-35.43 -114.17,-23.62 -90.55,-23.62 -90.55,-35.43
  region: -114.17,-15.75 -114.17,-3.94 -90.55,-3.94 -90.55,-15.75
  region: -114.17,3.94 -114.17,15.75 -90.55,15.75 -90.55,3.94
  region: -114.17,23.62 -114.17,35.43 -90.55,35.43 -90.55,23.62
  region: -114.17,62.99 -114.17,74.8 -90.55,74.8 -90.55,62.99
  region: -114.17,43.31 -114.17,55.12 -90.55,55.12 -90.55,43.31
tDocu:
  region: -98.43,5.12 -98.43,14.57 -82.68,14.57 -82.68,5.12
  region: -98.43,-14.57 -98.43,-5.12 -82.68,-5.12 -82.68,-14.57
  region: -98.43,-34.25 -98.43,-24.8 -82.68,-24.8 -82.68,-34.25
  region: -98.43,-53.94 -98.43,-44.49 -82.68,-44.49 -82.68,-53.94
  region: -98.43,-73.62 -98.43,-64.17 -82.68,-64.17 -82.68,-73.62
  region: -98.43,24.8 -98.43,34.25 -82.68,34.25 -82.68,24.8
  region: -98.43,44.49 -98.43,53.94 -82.68,53.94 -82.68,44.49
  region: -98.43,64.17 -98.43,73.62 -82.68,73.62 -82.68,64.17
  region: 5.12,98.43 14.57,98.43 14.57,82.68 5.12,82.68
  region: -14.57,98.43 -5.12,98.43 -5.12,82.68 -14.57,82.68
  region: -34.25,98.43 -24.8,98.43 -24.8,82.68 -34.25,82.68
  region: -53.94,98.43 -44.49,98.43 -44.49,82.68 -53.94,82.68
  region: -73.62,98.43 -64.17,98.43 -64.17,82.68 -73.62,82.68
  region: 24.8,98.43 34.25,98.43 34.25,82.68 24.8,82.68
  region: 44.49,98.43 53.94,98.43 53.94,82.68 44.49,82.68
  region: 64.17,98.43 73.62,98.43 73.62,82.68 64.17,82.68
  region: -5.12,-98.43 -14.57,-98.43 -14.57,-82.68 -5.12,-82.68
  region: 14.57,-98.43 5.12,-98.43 5.12,-82.68 14.57,-82.68
  region: 34.25,-98.43 24.8,-98.43 24.8,-82.68 34.25,-82.68
  region: 53.94,-98.43 44.49,-98.43 44.49,-82.68 53.94,-82.68
  region: 73.62,-98.43 64.17,-98.43 64.17,-82.68 73.62,-82.68
  region: -24.8,-98.43 -34.25,-98.43 -34.25,-82.68 -24.8,-82.68
  region: -44.49,-98.43 -53.94,-98.43 -53.94,-82.68 -44.49,-82.68
  region: -64.17,-98.43 -73.62,-98.43 -73.62,-82.68 -64.17,-82.68
  region: 98.43,-5.12 98.43,-14.57 82.68,-14.57 82.68,-5.12
  region: 98.43,14.57 98.43,5.12 82.68,5.12 82.68,14.57
  region: 98.43,34.25 98.43,24.8 82.68,24.8 82.68,34.25
  region: 98.43,53.94 98.43,44.49 82.68,44.49 82.68,53.94
  region: 98.43,73.62 98.43,64.17 82.68,64.17 82.68,73.62
  region: 98.43,-24.8 98.43,-34.25 82.68,-34.25 82.68,-24.8
  region: 98.43,-44.49 98.43,-53.94 82.68,-53.94 82.68,-44.49
  region: 98.43,-64.17 98.43,-73.62 82.68,-73.62 82.68,-64.17
  lines w5: -98.43,-98.43 98.43,-98.43 98.43,98.43 -98.43,98.43 -98.43,-98.43
tPlace:
  circle w5: c-107,-105.66 r3.94
  lines w5: -98.43,-82.68 -82.68,-98.43 ; -98.43,82.68 -98.43,98.43 -82.68,98.43 ; 82.68,-98.43 98.43,-98.43 98.43,-82.68 ; 82.68,98.43 98.43,98.43 98.43,82.68

## QFN-32_SAMD [mm]
pads (33):
  rect 0.25x0.4 smd: GND(0.21,2.31) GNDANA(-1.29,-2.39) PA08(-0.79,-2.39) PA09(-0.29,-2.39) PA10(0.21,-2.39) PA11(0.71,-2.39) PA14(1.21,-2.39) PA15(1.71,-2.39) PA27(1.71,2.31) PA28(0.71,2.31) PA30(-1.29,2.31) PA31(-1.79,2.31) RES(1.21,2.31) VDD(-1.79,-2.39) VDDCORE(-0.29,2.31) VDDIN(-0.79,2.31)
  rect 0.4x0.25 smd: PA00(-2.39,1.71) PA01(-2.39,1.21) PA02(-2.39,0.71) PA03(-2.39,0.21) PA04(-2.39,-0.29) PA05(-2.39,-0.79) PA06(-2.39,-1.29) PA07(-2.39,-1.79) PA16(2.31,-1.79) PA17(2.31,-1.29) PA18(2.31,-0.79) PA19(2.31,-0.29) PA22(2.31,0.21) PA23(2.31,0.71) PA24(2.31,1.21) PA25(2.31,1.71)
  rect 3.6x3.6 smd paste+0: PAD(-0.04,-0.04)
Top Paste:
  region: -1.414,0.274 -1.414,1.417 -0.271,1.417 -0.271,0.274
  region: 0.204,0.284 0.204,1.427 1.347,1.427 1.347,0.284
  region: -1.424,-1.42 -1.424,-0.277 -0.281,-0.277 -0.281,-1.42
  region: 0.194,-1.42 0.194,-0.277 1.337,-0.277 1.337,-1.42
tDocu:
  lines w0.127: -2.54,-2.54 2.46,-2.54 2.46,2.46 -2.54,2.46 -2.54,-2.49
tPlace:
  circle w0: c-2.921,2.794 r0.254
  lines w0.102: -2.54,-2.04 -2.54,-2.54 -2.04,-2.54 ; -2.54,1.96 -2.54,2.46 -2.04,2.46 ; 1.96,-2.54 2.46,-2.54 2.46,-2.04 ; 1.96,2.46 2.46,2.46 2.46,1.96
  lines w0.152: -2.54,1.96 -2.04,2.46